# Altium footprint library SIM800A_SMM.PcbLib: 3 footprints
Each footprint in its own frame and in the unit in brackets; x right, y up, seen from the top. Pads: shape width x height; smd on the part's side, far side on the other; paste and mask are expansions set on the pad; w line width, h text height; cw(c..) or ccw(c..) is an arc to the next point about the centre after c.
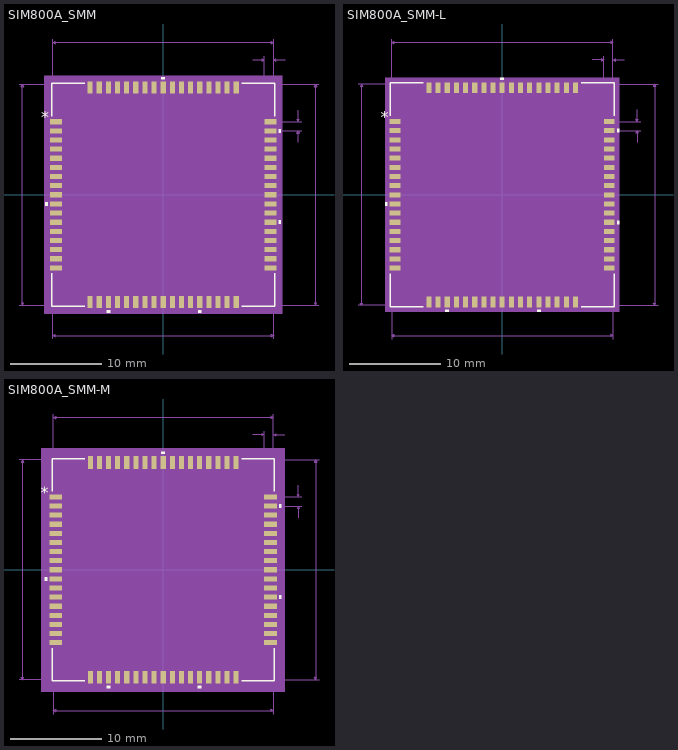
[diagram p0: the footprints below, top view; thin cyan lines are the x and y axes]

## SIM800A_SMM [mm]
pads (68):
  rect 1.291x0.56 smd paste+0 mask+0: 1(-11.732,8) 2(-11.732,7) 3(-11.732,6) 4(-11.732,5) 5(-11.732,4) 6(-11.732,3) 7(-11.732,2) 8(-11.732,1) 9(-11.732,0) 10(-11.732,-1) 11(-11.732,-2) 12(-11.732,-3) 13(-11.732,-4) 14(-11.732,-5) 15(-11.732,-6) 16(-11.732,-7) 17(-11.732,-8) 35(11.732,-8) 36(11.732,-7) 37(11.732,-6) 38(11.732,-5) 39(11.732,-4) 40(11.732,-3) 41(11.732,-2) 42(11.732,-1) 43(11.732,0) 44(11.732,1) 45(11.732,2) 46(11.732,3) 47(11.732,4) 48(11.732,5) 49(11.732,6) 50(11.732,7) 51(11.732,8)
  rect 0.56x1.291 smd paste+0 mask+0: 18(-8,-11.732) 19(-7,-11.732) 20(-6,-11.732) 21(-5,-11.732) 22(-4,-11.732) 23(-3,-11.732) 24(-2,-11.732) 25(-1,-11.732) 26(0,-11.732) 27(1,-11.732) 28(2,-11.732) 29(3,-11.732) 30(4,-11.732) 31(5,-11.732) 32(6,-11.732) 33(7,-11.732) 34(8,-11.732) 52(8,11.732) 53(7,11.732) 54(6,11.732) 55(5,11.732) 56(4,11.732) 57(3,11.732) 58(2,11.732) 59(1,11.732) 60(0,11.732) 61(-1,11.732) 62(-2,11.732) 63(-3,11.732) 64(-4,11.732) 65(-5,11.732) 66(-6,11.732) 67(-7,11.732) 68(-8,11.732)
Top Overlay:
  region: 0.191,12.632 -0.191,12.632 -0.191,12.886 0.191,12.886
  region: 12.632,7.191 12.886,7.191 12.886,6.81 12.632,6.81
  region: 12.632,-2.809 12.886,-2.809 12.886,-3.19 12.632,-3.19
  region: 4.19,-12.632 3.809,-12.632 3.809,-12.886 4.19,-12.886
  region: -5.81,-12.632 -6.191,-12.632 -6.191,-12.886 -5.81,-12.886
  region: -12.632,-0.81 -12.886,-0.81 -12.886,-1.191 -12.632,-1.191
  lines w0.152: -12.205,-8.613 -12.205,-12.205 -8.613,-12.205 ; -12.205,8.613 -12.205,12.205 -8.613,12.205 ; 8.613,-12.205 12.205,-12.205 12.205,-8.613 ; 8.613,12.205 12.205,12.205 12.205,8.613
  text "*" at -13.33,7.865 h1.27
Mechanical 5:
  region: 13.013,-13.013 -13.013,-13.013 -13.013,13.013 13.013,13.013
Mechanical 7:
  lines w0.025: -15.784,-12.078 12.078,-12.078 ; -15.784,12.078 12.078,12.078 12.078,-15.784 ; -12.078,-15.784 -12.078,12.078 ; -12.078,8 -12.078,17.054 ; 8,-12.078 17.054,-12.078 ; 8,12.078 17.054,12.078 ; 9.817,14.768 11.087,14.768 ; 11.087,8 11.087,15.149 ; 11.732,7 15.149,7 ; 11.732,8 15.149,8 ; 12.078,15.149 12.078,8 12.078,17.054 ; 13.348,14.768 12.078,14.768 ; 14.768,5.73 14.768,7 ; 14.768,9.27 14.768,8 ; -15.403,-12.078 -15.276,-11.824 -15.53,-11.824 -15.403,-12.078 ; -15.403,-12.078 -15.403,12.078 ; -15.403,12.078 -15.276,11.824 -15.53,11.824 -15.403,12.078 ; -12.078,-15.403 -11.824,-15.53 -11.824,-15.276 -12.078,-15.403 ; -12.078,-15.403 12.078,-15.403 ; -12.078,16.673 -11.824,16.546 -11.824,16.8 -12.078,16.673 ; -12.078,16.673 12.078,16.673 ; 11.087,14.768 10.833,14.641 10.833,14.895 11.087,14.768 ; 12.078,-15.403 11.824,-15.53 11.824,-15.276 12.078,-15.403 ; 12.078,14.768 12.332,14.641 12.332,14.895 12.078,14.768 ; 12.078,16.673 11.824,16.546 11.824,16.8 12.078,16.673 ; 14.768,7 14.895,6.746 14.641,6.746 14.768,7 ; 14.768,8 14.895,8.254 14.641,8.254 14.768,8 ; 16.673,-12.078 16.8,-11.824 16.546,-11.824 16.673,-12.078 ; 16.673,-12.078 16.673,12.078 ; 16.673,12.078 16.8,11.824 16.546,11.824 16.673,12.078
  text "0.951in/24.155mm" at -2.54,-16.546 h0.64
  text "0.951in/24.155mm" at -20.991,-0.318 h0.64
  text "0.951in/24.155mm" at 17.181,-0.318 h0.64
  text "0.951in/24.155mm" at -2.54,17.181 h0.64
  text "0.039in/0.991mm" at 9.201,15.276 h0.64
  text "0.039in/1mm" at 15.276,7.183 h0.64
  text "Alt 2 Padstyle: b229_152h76" at -8.572,-26.348 h1.27
  text "Alt 1 Padstyle: b152_229h76" at -8.572,-24.824 h1.27
  text "Default Padstyle: r56_129" at -7.938,-20.252 h1.27
Mechanical 13:
  lines w0.025: -12.078,10.808 -10.808,12.078 ; -12.078,-12.078 -12.078,12.078 12.078,12.078 12.078,-12.078 -12.078,-12.078 ; -12.078,-8.305 -12.078,-7.695 -12.078,-8.305 ; -12.078,-7.305 -12.078,-6.695 -12.078,-7.305 ; -12.078,-6.305 -12.078,-5.695 -12.078,-6.305 ; -12.078,-5.305 -12.078,-4.695 -12.078,-5.305 ; -12.078,-4.305 -12.078,-3.695 -12.078,-4.305 ; -12.078,-3.305 -12.078,-2.695 -12.078,-3.305 ; -12.078,-2.305 -12.078,-1.695 -12.078,-2.305 ; -12.078,-1.305 -12.078,-0.695 -12.078,-1.305 ; -12.078,-0.305 -12.078,0.305 -12.078,-0.305 ; -12.078,0.695 -12.078,1.305 -12.078,0.695 ; -12.078,1.695 -12.078,2.305 -12.078,1.695 ; -12.078,2.695 -12.078,3.305 -12.078,2.695 ; -12.078,3.695 -12.078,4.305 -12.078,3.695 ; -12.078,4.695 -12.078,5.305 -12.078,4.695 ; -12.078,5.695 -12.078,6.305 -12.078,5.695 ; -12.078,6.695 -12.078,7.305 -12.078,6.695 ; -12.078,7.695 -12.078,8.305 -12.078,7.695 ; -8.305,-12.078 -7.695,-12.078 -8.305,-12.078 ; -8.305,12.078 -7.695,12.078 -8.305,12.078 ; -7.305,-12.078 -6.695,-12.078 -7.305,-12.078 ; -7.305,12.078 -6.695,12.078 -7.305,12.078 ; -6.305,-12.078 -5.695,-12.078 -6.305,-12.078 ; -6.305,12.078 -5.695,12.078 -6.305,12.078 ; -5.305,-12.078 -4.695,-12.078 -5.305,-12.078 ; -5.305,12.078 -4.695,12.078 -5.305,12.078 ; -4.305,-12.078 -3.695,-12.078 -4.305,-12.078 ; -4.305,12.078 -3.695,12.078 -4.305,12.078 ; -3.305,-12.078 -2.695,-12.078 -3.305,-12.078 ; -3.305,12.078 -2.695,12.078 -3.305,12.078 ; -2.305,-12.078 -1.695,-12.078 -2.305,-12.078 ; -2.305,12.078 -1.695,12.078 -2.305,12.078 ; -1.305,-12.078 -0.695,-12.078 -1.305,-12.078 ; -1.305,12.078 -0.695,12.078 -1.305,12.078 ; -0.305,-12.078 0.305,-12.078 -0.305,-12.078 ; -0.305,12.078 0.305,12.078 -0.305,12.078 ; 0.695,-12.078 1.305,-12.078 0.695,-12.078 ; 0.695,12.078 1.305,12.078 0.695,12.078 ; 1.695,-12.078 2.305,-12.078 1.695,-12.078 ; 1.695,12.078 2.305,12.078 1.695,12.078 ; 2.695,-12.078 3.305,-12.078 2.695,-12.078 ; 2.695,12.078 3.305,12.078 2.695,12.078 ; 3.695,-12.078 4.305,-12.078 3.695,-12.078 ; 3.695,12.078 4.305,12.078 3.695,12.078 ; 4.695,-12.078 5.305,-12.078 4.695,-12.078 ; 4.695,12.078 5.305,12.078 4.695,12.078 ; 5.695,-12.078 6.305,-12.078 5.695,-12.078 ; 5.695,12.078 6.305,12.078 5.695,12.078 ; 6.695,-12.078 7.305,-12.078 6.695,-12.078 ; 6.695,12.078 7.305,12.078 6.695,12.078 ; 7.695,-12.078 8.305,-12.078 7.695,-12.078 ; 7.695,12.078 8.305,12.078 7.695,12.078 ; 12.078,-8.305 12.078,-7.695 12.078,-8.305 ; 12.078,-7.305 12.078,-6.695 12.078,-7.305 ; 12.078,-6.305 12.078,-5.695 12.078,-6.305 ; 12.078,-5.305 12.078,-4.695 12.078,-5.305 ; 12.078,-4.305 12.078,-3.695 12.078,-4.305 ; 12.078,-3.305 12.078,-2.695 12.078,-3.305 ; 12.078,-2.305 12.078,-1.695 12.078,-2.305 ; 12.078,-1.305 12.078,-0.695 12.078,-1.305 ; 12.078,-0.305 12.078,0.305 12.078,-0.305 ; 12.078,0.695 12.078,1.305 12.078,0.695 ; 12.078,1.695 12.078,2.305 12.078,1.695 ; 12.078,2.695 12.078,3.305 12.078,2.695 ; 12.078,3.695 12.078,4.305 12.078,3.695 ; 12.078,4.695 12.078,5.305 12.078,4.695 ; 12.078,5.695 12.078,6.305 12.078,5.695 ; 12.078,6.695 12.078,7.305 12.078,6.695 ; 12.078,7.695 12.078,8.305 12.078,7.695
  text "*" at -11.405,7.865 h1.27
Mechanical 15:
  region: -8.534,-12.332 -12.332,-12.332 -12.332,-8.534 -12.632,-8.534 -12.632,8.534 -12.332,8.534 -12.332,12.332 -8.534,12.332 -8.534,12.632 8.534,12.632 8.534,12.332 12.332,12.332 12.332,8.534 12.632,8.534 12.632,-8.534 12.332,-8.534 12.332,-12.332 8.534,-12.332 8.534,-12.632 -8.534,-12.632
  lines w0.152: -12.632,-8.534 -12.632,8.534 -12.332,8.534 -12.332,12.332 -8.534,12.332 -8.534,12.632 8.534,12.632 8.534,12.332 12.332,12.332 12.332,8.534 12.632,8.534 12.632,-8.534 12.332,-8.534 12.332,-12.332 8.534,-12.332 8.534,-12.632 -8.534,-12.632 -8.534,-12.332 -12.332,-12.332 -12.332,-8.534 -12.632,-8.534
3D body "SIM800A_SMM.step": height 3.15, standoff 0, extent -12.078,-12.078 12.078,12.078
3D body: height 0.25, standoff 0, extent 0,0 0.254,0.254

## SIM800A_SMM-L [mm]
pads (68):
  rect 1.191x0.56 smd paste+0 mask+0: 1(-11.682,8) 2(-11.682,7) 3(-11.682,6) 4(-11.682,5) 5(-11.682,4) 6(-11.682,3) 7(-11.682,2) 8(-11.682,1) 9(-11.682,0) 10(-11.682,-1) 11(-11.682,-2) 12(-11.682,-3) 13(-11.682,-4) 14(-11.682,-5) 15(-11.682,-6) 16(-11.682,-7) 17(-11.682,-8) 35(11.682,-8) 36(11.682,-7) 37(11.682,-6) 38(11.682,-5) 39(11.682,-4) 40(11.682,-3) 41(11.682,-2) 42(11.682,-1) 43(11.682,0) 44(11.682,1) 45(11.682,2) 46(11.682,3) 47(11.682,4) 48(11.682,5) 49(11.682,6) 50(11.682,7) 51(11.682,8)
  rect 0.56x1.191 smd paste+0 mask+0: 18(-8,-11.682) 19(-7,-11.682) 20(-6,-11.682) 21(-5,-11.682) 22(-4,-11.682) 23(-3,-11.682) 24(-2,-11.682) 25(-1,-11.682) 26(0,-11.682) 27(1,-11.682) 28(2,-11.682) 29(3,-11.682) 30(4,-11.682) 31(5,-11.682) 32(6,-11.682) 33(7,-11.682) 34(8,-11.682) 52(8,11.682) 53(7,11.682) 54(6,11.682) 55(5,11.682) 56(4,11.682) 57(3,11.682) 58(2,11.682) 59(1,11.682) 60(0,11.682) 61(-1,11.682) 62(-2,11.682) 63(-3,11.682) 64(-4,11.682) 65(-5,11.682) 66(-6,11.682) 67(-7,11.682) 68(-8,11.682)
Top Overlay:
  region: -12.532,-0.81 -12.786,-0.81 -12.786,-1.191 -12.532,-1.191
  region: -5.81,-12.532 -6.191,-12.532 -6.191,-12.786 -5.81,-12.786
  region: 4.19,-12.532 3.809,-12.532 3.809,-12.786 4.19,-12.786
  region: 12.532,-2.809 12.786,-2.809 12.786,-3.19 12.532,-3.19
  region: 12.532,7.191 12.786,7.191 12.786,6.81 12.532,6.81
  region: 0.191,12.532 -0.191,12.532 -0.191,12.786 0.191,12.786
  lines w0.152: -12.205,-8.613 -12.205,-12.205 -8.613,-12.205 ; -12.205,8.613 -12.205,12.205 -8.613,12.205 ; 8.613,-12.205 12.205,-12.205 12.205,-8.613 ; 8.613,12.205 12.205,12.205 12.205,8.613
  text "*" at -13.23,7.865 h1.27
Mechanical 5:
  region: 12.76,-12.76 -12.76,-12.76 -12.76,12.76 12.76,12.76
Mechanical 7:
  lines w0.025: -15.734,-12.078 12.078,-12.078 ; -15.734,12.078 12.078,12.078 12.078,-15.734 ; -12.078,-15.734 -12.078,12.078 ; -12.078,8 -12.078,17.004 ; 8,-12.078 17.004,-12.078 ; 8,12.078 17.004,12.078 ; 9.817,14.718 11.087,14.718 ; 11.087,8 11.087,15.099 ; 11.682,7 15.099,7 ; 11.682,8 15.099,8 ; 12.078,15.099 12.078,8 12.078,17.004 ; 13.348,14.718 12.078,14.718 ; 14.718,5.73 14.718,7 ; 14.718,9.27 14.718,8 ; -15.353,-12.078 -15.353,12.078 ; -15.353,-12.078 -15.48,-11.824 -15.226,-11.824 -15.353,-12.078 ; -15.353,12.078 -15.48,11.824 -15.226,11.824 -15.353,12.078 ; -12.078,-15.353 12.078,-15.353 ; -12.078,-15.353 -11.824,-15.226 -11.824,-15.48 -12.078,-15.353 ; -12.078,16.623 12.078,16.623 ; -12.078,16.623 -11.824,16.75 -11.824,16.496 -12.078,16.623 ; 11.087,14.718 10.833,14.845 10.833,14.591 11.087,14.718 ; 12.078,-15.353 11.824,-15.226 11.824,-15.48 12.078,-15.353 ; 12.078,14.718 12.332,14.845 12.332,14.591 12.078,14.718 ; 12.078,16.623 11.824,16.75 11.824,16.496 12.078,16.623 ; 14.718,7 14.591,6.746 14.845,6.746 14.718,7 ; 14.718,8 14.591,8.254 14.845,8.254 14.718,8 ; 16.623,-12.078 16.623,12.078 ; 16.623,-12.078 16.496,-11.824 16.75,-11.824 16.623,-12.078 ; 16.623,12.078 16.496,11.824 16.75,11.824 16.623,12.078
  text "Default Padstyle: r56_119" at -7.938,-20.152 h1.27
  text "Alt 1 Padstyle: b152_229h76" at -8.572,-24.724 h1.27
  text "Alt 2 Padstyle: b229_152h76" at -8.572,-26.248 h1.27
  text "0.039in/1mm" at 15.226,7.183 h0.64
  text "0.039in/0.991mm" at 9.201,15.226 h0.64
  text "0.951in/24.155mm" at -2.54,17.131 h0.64
  text "0.951in/24.155mm" at 17.131,-0.318 h0.64
  text "0.951in/24.155mm" at -20.941,-0.318 h0.64
  text "0.951in/24.155mm" at -2.54,-16.496 h0.64
Mechanical 13:
  drawing of 281 lines, arcs and shapes, not listed
  text "*" at -11.405,7.865 h1.27
Mechanical 15:
  region: -8.381,-12.179 -12.179,-12.179 -12.179,-8.381 -12.379,-8.381 -12.379,8.381 -12.179,8.381 -12.179,12.179 -8.381,12.179 -8.381,12.379 8.381,12.379 8.381,12.179 12.179,12.179 12.179,8.381 12.379,8.381 12.379,-8.381 12.179,-8.381 12.179,-12.179 8.381,-12.179 8.381,-12.379 -8.381,-12.379
  lines w0.152: -12.379,-8.381 -12.179,-8.381 -12.179,-12.179 -8.381,-12.179 -8.381,-12.379 8.381,-12.379 8.381,-12.179 12.179,-12.179 12.179,-8.381 12.379,-8.381 12.379,8.381 12.179,8.381 12.179,12.179 8.381,12.179 8.381,12.379 -8.381,12.379 -8.381,12.179 -12.179,12.179 -12.179,8.381 -12.379,8.381 -12.379,-8.381
3D body: height 0.25, standoff 0, extent 0,0 0.254,0.254

## SIM800A_SMM-M [mm]
pads (68):
  rect 1.391x0.56 smd paste+0 mask+0: 1(-11.782,8) 2(-11.782,7) 3(-11.782,6) 4(-11.782,5) 5(-11.782,4) 6(-11.782,3) 7(-11.782,2) 8(-11.782,1) 9(-11.782,0) 10(-11.782,-1) 11(-11.782,-2) 12(-11.782,-3) 13(-11.782,-4) 14(-11.782,-5) 15(-11.782,-6) 16(-11.782,-7) 17(-11.782,-8) 35(11.782,-8) 36(11.782,-7) 37(11.782,-6) 38(11.782,-5) 39(11.782,-4) 40(11.782,-3) 41(11.782,-2) 42(11.782,-1) 43(11.782,0) 44(11.782,1) 45(11.782,2) 46(11.782,3) 47(11.782,4) 48(11.782,5) 49(11.782,6) 50(11.782,7) 51(11.782,8)
  rect 0.56x1.391 smd paste+0 mask+0: 18(-8,-11.782) 19(-7,-11.782) 20(-6,-11.782) 21(-5,-11.782) 22(-4,-11.782) 23(-3,-11.782) 24(-2,-11.782) 25(-1,-11.782) 26(0,-11.782) 27(1,-11.782) 28(2,-11.782) 29(3,-11.782) 30(4,-11.782) 31(5,-11.782) 32(6,-11.782) 33(7,-11.782) 34(8,-11.782) 52(8,11.782) 53(7,11.782) 54(6,11.782) 55(5,11.782) 56(4,11.782) 57(3,11.782) 58(2,11.782) 59(1,11.782) 60(0,11.782) 61(-1,11.782) 62(-2,11.782) 63(-3,11.782) 64(-4,11.782) 65(-5,11.782) 66(-6,11.782) 67(-7,11.782) 68(-8,11.782)
Top Overlay:
  region: -12.732,-0.81 -12.986,-0.81 -12.986,-1.191 -12.732,-1.191
  region: -5.81,-12.732 -6.191,-12.732 -6.191,-12.986 -5.81,-12.986
  region: 4.19,-12.732 3.809,-12.732 3.809,-12.986 4.19,-12.986
  region: 12.732,-2.809 12.986,-2.809 12.986,-3.19 12.732,-3.19
  region: 12.732,7.191 12.986,7.191 12.986,6.81 12.732,6.81
  region: 0.191,12.732 -0.191,12.732 -0.191,12.986 0.191,12.986
  lines w0.152: -12.205,-8.613 -12.205,-12.205 -8.613,-12.205 ; -12.205,8.613 -12.205,12.205 -8.613,12.205 ; 8.613,-12.205 12.205,-12.205 12.205,-8.613 ; 8.613,12.205 12.205,12.205 12.205,8.613
  text "*" at -13.43,7.865 h1.27
Mechanical 5:
  region: 13.367,-13.367 -13.367,-13.367 -13.367,13.367 13.367,13.367
Mechanical 7:
  lines w0.025: -15.834,-12.078 12.078,-12.078 ; -15.834,12.078 12.078,12.078 12.078,-15.834 ; -12.078,-15.834 -12.078,12.078 ; -12.078,8 -12.078,17.104 ; 8,-12.078 17.104,-12.078 ; 8,12.078 17.104,12.078 ; 9.817,14.818 11.087,14.818 ; 11.087,8 11.087,15.199 ; 11.782,7 15.199,7 ; 11.782,8 15.199,8 ; 12.078,15.199 12.078,8 12.078,17.104 ; 13.348,14.818 12.078,14.818 ; 14.818,5.73 14.818,7 ; 14.818,9.27 14.818,8 ; -15.453,-12.078 -15.453,12.078 ; -15.453,-12.078 -15.58,-11.824 -15.326,-11.824 -15.453,-12.078 ; -15.453,12.078 -15.58,11.824 -15.326,11.824 -15.453,12.078 ; -12.078,-15.453 12.078,-15.453 ; -12.078,-15.453 -11.824,-15.326 -11.824,-15.58 -12.078,-15.453 ; -12.078,16.723 12.078,16.723 ; -12.078,16.723 -11.824,16.85 -11.824,16.596 -12.078,16.723 ; 11.087,14.818 10.833,14.945 10.833,14.691 11.087,14.818 ; 12.078,-15.453 11.824,-15.326 11.824,-15.58 12.078,-15.453 ; 12.078,14.818 12.332,14.945 12.332,14.691 12.078,14.818 ; 12.078,16.723 11.824,16.85 11.824,16.596 12.078,16.723 ; 14.818,7 14.691,6.746 14.945,6.746 14.818,7 ; 14.818,8 14.691,8.254 14.945,8.254 14.818,8 ; 16.723,-12.078 16.723,12.078 ; 16.723,-12.078 16.596,-11.824 16.85,-11.824 16.723,-12.078 ; 16.723,12.078 16.596,11.824 16.85,11.824 16.723,12.078
  text "Default Padstyle: r56_139" at -7.938,-20.352 h1.27
  text "Alt 1 Padstyle: b152_229h76" at -8.572,-24.924 h1.27
  text "Alt 2 Padstyle: b229_152h76" at -8.572,-26.448 h1.27
  text "0.039in/1mm" at 15.326,7.183 h0.64
  text "0.039in/0.991mm" at 9.201,15.326 h0.64
  text "0.951in/24.155mm" at -2.54,17.231 h0.64
  text "0.951in/24.155mm" at 17.231,-0.318 h0.64
  text "0.951in/24.155mm" at -21.041,-0.318 h0.64
  text "0.951in/24.155mm" at -2.54,-16.596 h0.64
Mechanical 13:
  drawing of 281 lines, arcs and shapes, not listed
  text "*" at -11.405,7.865 h1.27
Mechanical 15:
  region: -8.788,-12.586 -12.586,-12.586 -12.586,-8.788 -12.986,-8.788 -12.986,8.788 -12.586,8.788 -12.586,12.586 -8.788,12.586 -8.788,12.986 8.788,12.986 8.788,12.586 12.586,12.586 12.586,8.788 12.986,8.788 12.986,-8.788 12.586,-8.788 12.586,-12.586 8.788,-12.586 8.788,-12.986 -8.788,-12.986
  lines w0.152: -12.986,-8.788 -12.586,-8.788 -12.586,-12.586 -8.788,-12.586 -8.788,-12.986 8.788,-12.986 8.788,-12.586 12.586,-12.586 12.586,-8.788 12.986,-8.788 12.986,8.788 12.586,8.788 12.586,12.586 8.788,12.586 8.788,12.986 -8.788,12.986 -8.788,12.586 -12.586,12.586 -12.586,8.788 -12.986,8.788 -12.986,-8.788
3D body: height 0.25, standoff 0, extent 0,0 0.254,0.254